# EAGLE library part LOGIC_74153 (library akita)
74153, dual 4-input mux
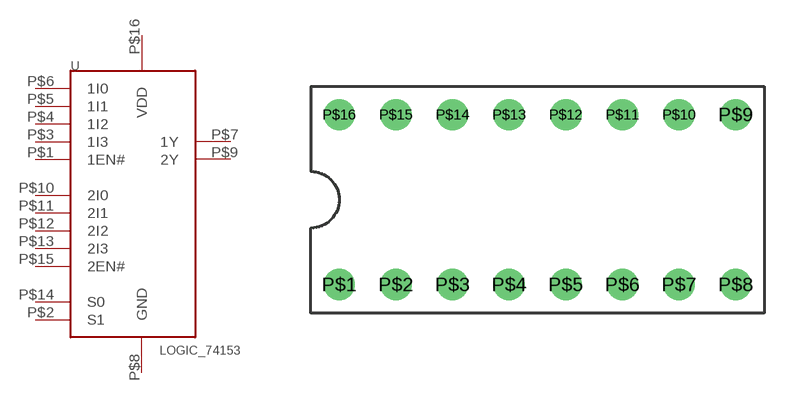
[diagram p134: symbol with the pads of DIP16; footprint DIP16]

Designator prefix U

## LOGIC_74153  [DIP16]
P$1  1EN#
P$2  S1
P$3  1I3
P$4  1I2
P$5  1I1
P$6  1I0
P$7  1Y
P$8  GND
P$9  2Y
P$10  2I0
P$11  2I1
P$12  2I2
P$13  2I3
P$14  S0
P$15  2EN#
P$16  VDD

## Footprint DIP16 (pad centres in mm)
drill 0.9: P$1 -8.89,-3.81; P$2 -6.35,-3.81; P$3 -3.81,-3.81; P$4 -1.27,-3.81; P$5 1.27,-3.81; P$6 3.81,-3.81; P$7 6.35,-3.81; P$8 8.89,-3.81; P$9 8.89,3.81; P$10 6.35,3.81; P$11 3.81,3.81; P$12 1.27,3.81; P$13 -1.27,3.81; P$14 -3.81,3.81; P$15 -6.35,3.81; P$16 -8.89,3.81